# EAGLE library part MCP6242 (library spietz-library)
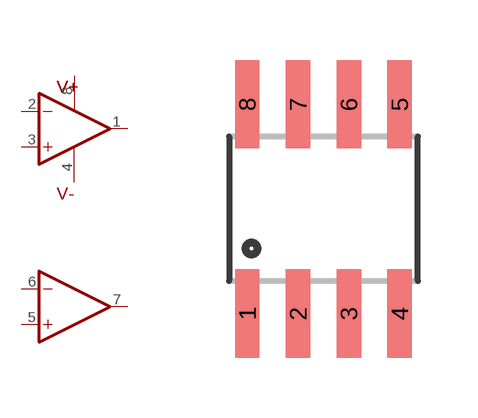
[diagram p20: symbol with the pads of 8-SOIC; footprint 8-SOIC]

Designator prefix -

## MCP6242  [8-SOIC]
1  OUTA  out
2  -INA  in
3  +INA  in
4  V-  pwr
5  +INB  in
6  -INB  in
7  OUTB  out
8  V+  pwr

## Footprint 8-SOIC (pad centres in mm)
smd 0.61 x 2.21: 1 -1.905,-2.616; 2 -0.635,-2.616; 3 0.635,-2.616; 4 1.905,-2.616; 5 1.905,2.616; 6 0.635,2.616; 7 -0.635,2.616; 8 -1.905,2.616